# EAGLE library part 418121270807 (library 428427520910_Eagle_WS-ROTU_rev19b)
WS-DISV SMD version raise actuator without top tape sealed Specification Contact Rating Switching :25mA, 24VDC Non-Switching : 100mA, 50VDC Contact Resistance Initial: 50mΩ max. After life test: 100mΩ max. Insulation Resistance: min.100MΩ at 500VDC Dielectric Strength : 500VAC for 1 minute Operation Force :600g max. Mechanical Life : 2000 cycles Electrical Life : 2000 cycles / 25mA, 24VDC Raise Actuator type Material Cover : : PA9T UL 94 V-0, color Black Base :PA9T UL 94 V-0, color Black. Actuator :PA46 UL 94 V-0, color White Contact : : Gold Plated Terminal : Gold Plated <http://katalog.we-online.de/media/images/v2/Family_WS-DISV_SMD_RAISED_ACTUATOR_4181212708xx_4C.jpg> Details see: http://katalog.we-online.de/en/em/DISV_2_54_SMALL_COMPACT_SMD_WITH_RAISED_ACTUATOR 2015 (C) Wurth Elektronik
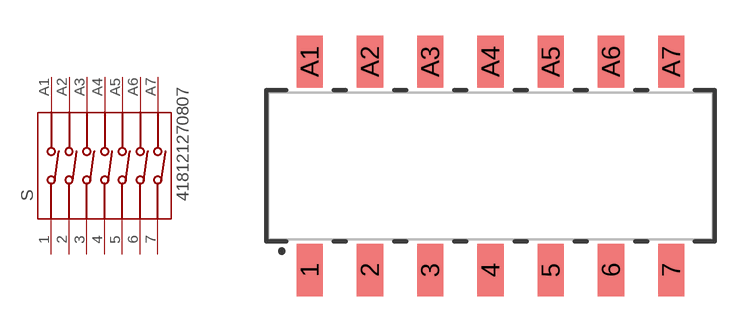
[diagram p119: symbol with the pads of 418121270807; footprint 418121270807]

Designator prefix S

## 418121270807  [418121270807]
1  1  pas
2  2  pas
3  3  pas
4  4  pas
5  5  pas
6  6  pas
7  7  pas
A1  A1  pas
A2  A2  pas
A3  A3  pas
A4  A4  pas
A5  A5  pas
A6  A6  pas
A7  A7  pas

## Footprint 418121270807 (pad centres in mm)
smd 1.1 x 2.2: 1 -7.62,-4.4; 2 -5.08,-4.4; 3 -2.54,-4.4; 4 0,-4.4; 5 2.54,-4.4; 6 5.08,-4.4; 7 7.62,-4.4; A1 -7.62,4.4; A2 -5.08,4.4; A3 -2.54,4.4; A4 0,4.4; A5 2.54,4.4; A6 5.08,4.4; A7 7.62,4.4